# Altium schematic symbol library Diodes.SchLib: 6 symbols
Pins are listed as number, name and electrical type; pins without a type are passive.

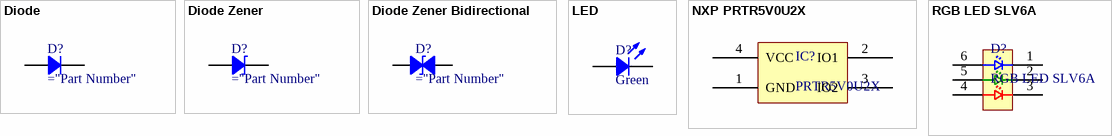
[diagram p0: symbols Diode to RGB LED SLV6A]

## Diode
designator D?
Rectifier Diode
footprint DO214AA SMB (Molded Diode, 2-Leads, Body 4.31x3.62mm, IPC Medium Density)
pins: 1, 2

## Diode Zener
designator D?
Zener Diode
pins: 1, 2

## Diode Zener Bidirectional
designator D?
Bidirectional Zener Diode
pins: 1, 2

## LED
designator D?, comment Green
Chip LED; Value: Green
footprint LED 1206/3216 (Chip Diode, 2-Leads, Body 3.13x1.55mm, IPC Medium Density)
pins: 1, 2

## NXP PRTR5V0U2X
designator IC?, comment PRTR5V0U2X
Ultra low capacitance double rail-to-rail ESD protection diode
pins: 1 GND, 2 IO1, 3 IO2, 4 VCC

## RGB LED SLV6A
designator D?
Cree SLV6A
pins: 1 C1, 2 C2, 3 C3, 4 A3, 5 A2, 6 A1